# EAGLE library part DS1337S+ (library DS1337S+)
64 x 8, Serial, I2C Real-Time Clock
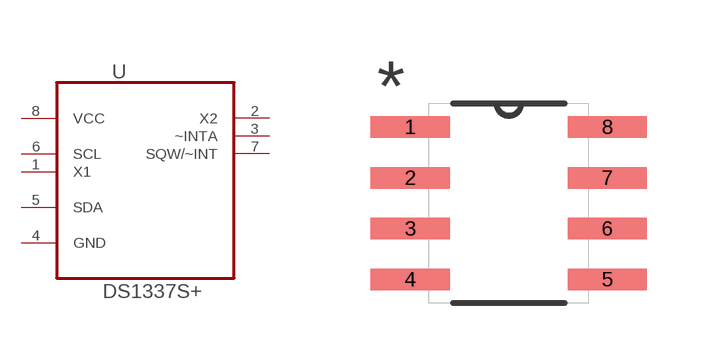
[diagram p0: symbol with the pads of SOIC127P600X175-8N; footprint SOIC127P600X175-8N]

Designator prefix U

## DS1337S+ (MPN: DS1337S+; OC_FARNELL: 1379748; OC_NEWARK: 08J6237; PACKAGE: SOIC-8; SUPPLIER: Maxim)  [SOIC127P600X175-8N]
1  X1  in
2  X2  pas
3  ~INTA  out
4  GND  pas
5  SDA
6  SCL  in
7  SQW/~INT  out
8  VCC  pwr

## Footprint SOIC127P600X175-8N (pad centres in mm)
smd 1.981 x 0.533: 1 -2.464,1.905; 2 -2.464,0.635; 3 -2.464,-0.635; 4 -2.464,-1.905; 5 2.464,-1.905; 6 2.464,-0.635; 7 2.464,0.635; 8 2.464,1.905